# Altium footprint library SpaceBee.PcbLib: 36 footprints (part 2 of 3)
Each footprint in its own frame and in the unit in brackets; x right, y up, seen from the top. Pads: shape width x height; smd on the part's side, far side on the other; paste and mask are expansions set on the pad; w line width, h text height; cw(c..) or ccw(c..) is an arc to the next point about the centre after c.
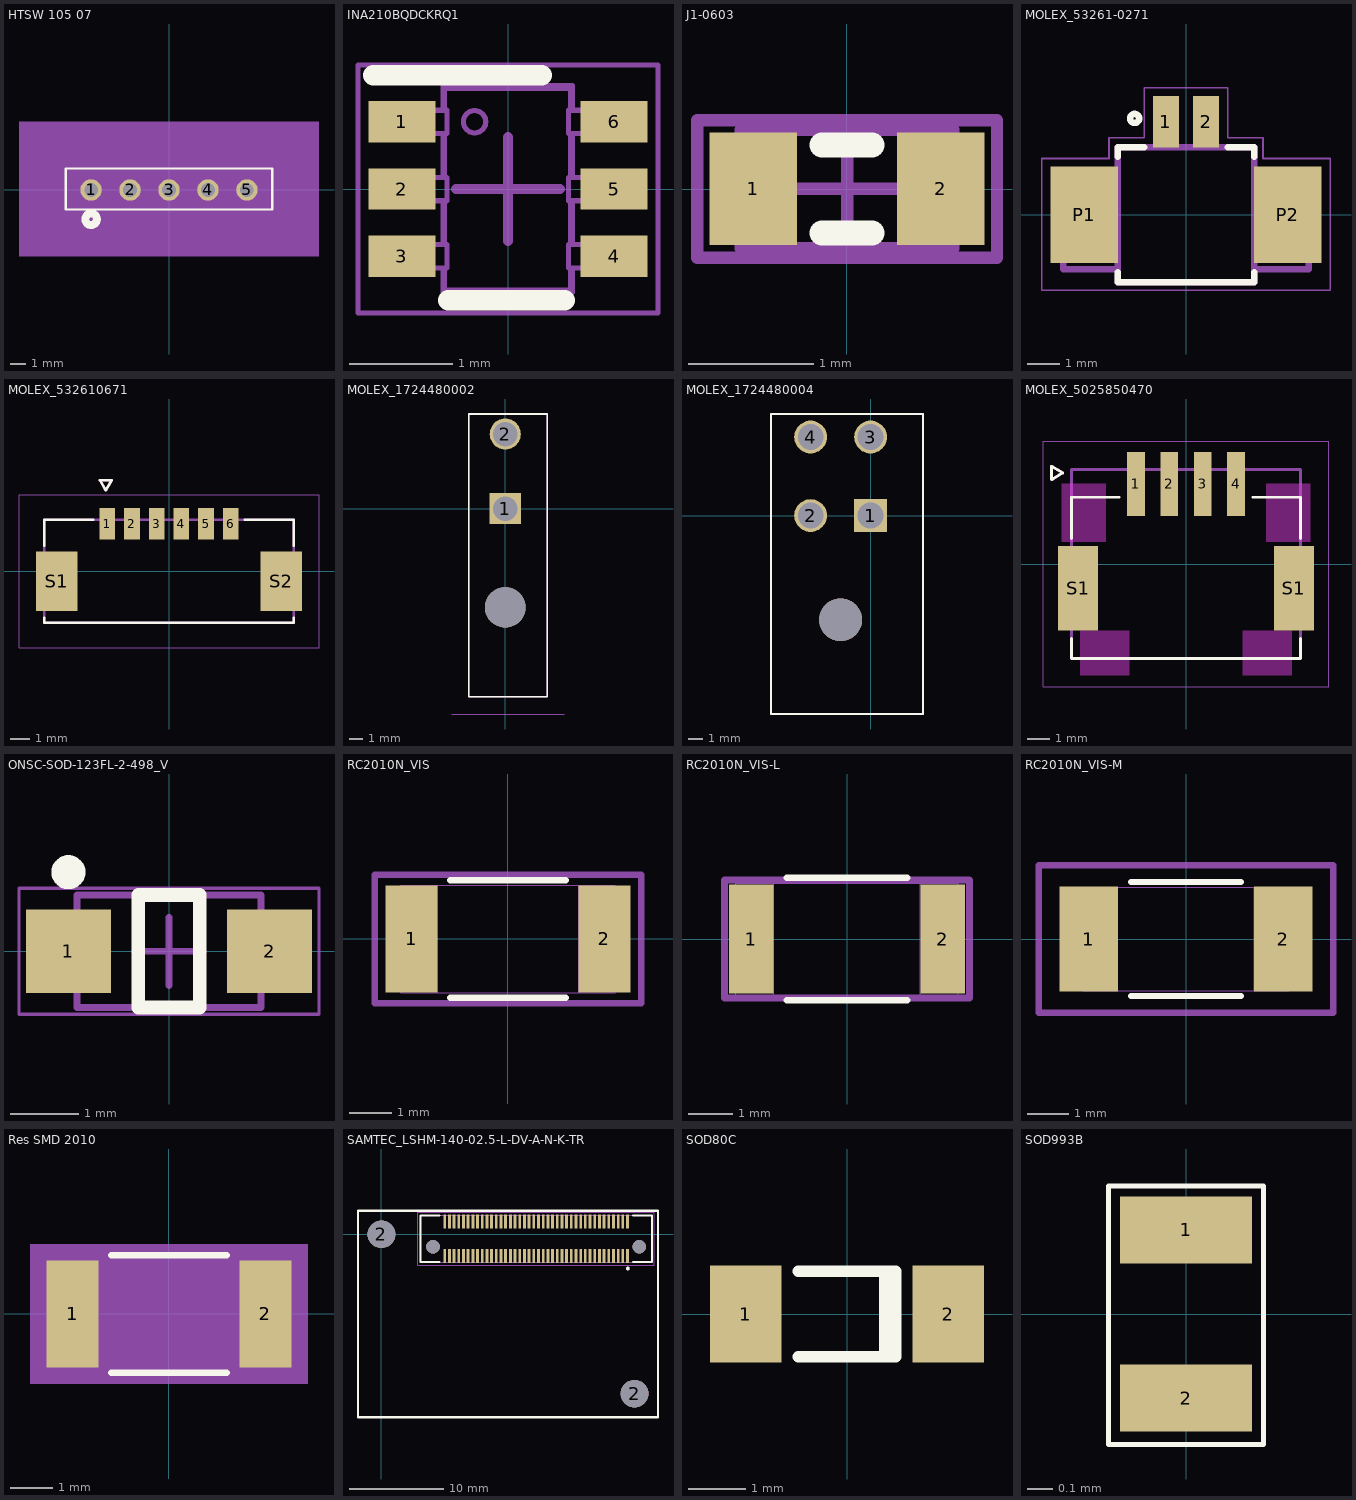
[diagram p1: the footprints below, top view; thin cyan lines are the x and y axes]

## HTSW 105 07 [mil]
pads (5):
  round 55 hole 35 mask+0: 1(-200,0) 2(-100,0) 3(0,0) 4(100,0) 5(200,0)
Top Overlay:
  circle w20: c-200,-75 r15
  lines w6: -265,-50 265,-50 265,55 -265,55 -265,-50
Bottom Overlay:
  circle w20: c-200,-75 r15
Mechanical 5:
  region: -385,175 385,175 385,-170 -385,-170
Mechanical 13:
  circle w0: c-200,0 r10
  lines w1: -260,-45 260,-45 260,50 -260,50 -260,-45
Mechanical 15:
  region: 270,60 250,60 250,102 -250,102 -250,60 -270,60 -270,-55 -250,-55 -250,-102 250,-102 250,-55 270,-55
  lines w6: -270,-55 -270,60 -250,60 -250,102 250,102 250,60 270,60 270,-55 250,-55 250,-102 -250,-102 -250,-55 -270,-55
3D body "CON5_1X5_TU_TSW.step": height 500, standoff 0, extent -250,-50 250,50

## INA210BQDCKRQ1 [mm]
pads (6):
  rect 0.65x0.4 smd paste+0 mask+0.051: 1(-1.025,0.65) 2(-1.025,0) 3(-1.025,-0.65) 4(1.025,-0.65) 5(1.025,0) 6(1.025,0.65)
Top Overlay:
  lines w0.2: -1.3,1.1 0.325,1.1 ; -0.575,-1.075 0.55,-1.075
Mechanical 13:
  lines w0.05: -0.613,-0.763 -0.613,-0.976 0.607,-0.976 0.607,-0.763 ; -0.613,-0.538 -0.613,-0.113 ; -0.613,0.112 -0.613,0.537 ; -0.613,0.762 -0.613,0.974 0.607,0.974 0.607,0.762 ; 0.607,-0.538 0.607,-0.113 ; 0.607,0.112 0.607,0.537 ; -0.628,-0.763 -0.628,-1.001 0.622,-1.001 0.622,-0.763 ; -0.628,-0.763 -0.853,-0.763 -0.865,-0.763 -0.959,-0.763 -1.143,-0.763 -1.143,-0.538 -0.959,-0.538 -0.865,-0.538 -0.853,-0.538 -0.628,-0.538 ; -0.628,-0.763 -0.591,-0.763 -0.591,-0.538 -0.628,-0.538 ; -0.628,-0.538 -0.628,-0.113 ; -0.628,-0.113 -0.853,-0.113 -0.865,-0.113 -0.959,-0.113 -1.143,-0.113 -1.143,0.112 -0.959,0.112 -0.865,0.112 -0.853,0.112 -0.628,0.112 ; -0.628,-0.113 -0.591,-0.113 -0.591,0.112 -0.628,0.112 ; -0.628,0.112 -0.628,0.537 ; -0.628,0.537 -0.853,0.537 -0.865,0.537 -0.959,0.537 -1.143,0.537 -1.143,0.762 -0.959,0.762 -0.865,0.762 -0.853,0.762 -0.628,0.762 ; -0.628,0.537 -0.591,0.537 -0.591,0.762 -0.628,0.762 ; -0.628,0.762 -0.628,0.999 0.622,0.999 0.622,0.762 ; 0.622,-0.763 0.847,-0.763 0.859,-0.763 0.953,-0.763 1.137,-0.763 1.137,-0.538 0.953,-0.538 0.859,-0.538 0.847,-0.538 0.622,-0.538 ; 0.622,-0.763 0.585,-0.763 0.585,-0.538 0.622,-0.538 ; 0.622,-0.538 0.622,-0.113 ; 0.622,-0.113 0.585,-0.113 0.585,0.112 0.622,0.112 ; 0.622,-0.113 0.847,-0.113 0.859,-0.113 0.953,-0.113 1.137,-0.113 1.137,0.112 0.953,0.112 0.859,0.112 0.847,0.112 0.622,0.112 ; 0.622,0.112 0.622,0.537 ; 0.622,0.537 0.847,0.537 0.859,0.537 0.953,0.537 1.137,0.537 1.137,0.762 0.953,0.762 0.859,0.762 0.847,0.762 0.622,0.762 ; 0.622,0.537 0.585,0.537 0.585,0.762 0.622,0.762 ; -0.432,0.65 cw(c-0.323,0.65) -0.215,0.65 cw(c-0.323,0.65) -0.432,0.65
Mechanical 15:
  lines w0.05: -1.45,-1.2 1.45,-1.2 1.45,1.2 -1.45,1.2 -1.45,-1.2
  lines w0.1: -0.5,0 0.5,0 ; 0,-0.5 0,0.5
3D body: height 1.1, standoff 0, extent -0.635,-1.016 0.635,1.016

## J1-0603 [mm]
pads (2):
  rect 0.7x0.9 smd: 1(-0.75,0) 2(0.75,0)
Top Overlay:
  lines w0.2: -0.2,-0.35 0.2,-0.35 ; -0.2,0.35 0.2,0.35
Mechanical 13:
  lines w0.1: -0.85,-0.475 0.85,-0.475 0.85,0.475 -0.85,0.475 -0.85,-0.475
Mechanical 15:
  lines w0.1: -0.475,0 0.475,0 ; 0,-0.475 0,0.475 ; -1.2,-0.55 1.2,-0.55 1.2,0.55 -1.2,0.55 -1.2,-0.55
3D body: height 0.9, standoff 0, extent -0.85,-0.475 0.85,0.475

## MOLEX_53261-0271 [mm]
pads (4):
  rect 0.8x1.6 smd: 1(-0.625,2.9) 2(0.625,2.9)
  rect 2.1x3 smd: P1(-3.175,0) P2(3.175,0)
Top Overlay:
  circle w0.2: c-1.6,3 r0.141
  lines w0.2: -2.125,-1.8 -2.125,-2.1 2.125,-2.1 2.125,-1.8 ; -2.125,1.8 -2.125,2.1 -1.3,2.1 ; 1.3,2.1 2.125,2.1 2.125,1.8
Mechanical 13:
  lines w0.2: -2.125,-1.7 -2.125,-2.1 2.125,-2.1 2.125,-1.7 ; -2.125,-1.7 -2.125,1.1 ; -2.125,-1.7 -3.825,-1.7 -3.825,1.1 -2.125,1.1 ; -2.125,1.1 -2.125,2.1 2.125,2.1 2.125,1.1 ; 2.125,-1.7 2.125,1.1 ; 2.125,-1.7 3.825,-1.7 3.825,1.1 2.125,1.1
Mechanical 15:
  lines w0.05: -4.5,-2.35 4.5,-2.35 4.5,1.75 2.4,1.75 2.4,2.4 1.3,2.4 1.3,3.95 -1.3,3.95 -1.3,2.4 -2.4,2.4 -2.4,1.75 -4.5,1.75 -4.5,-2.35
3D body "532610271.stp": height 3.23, standoff -0.17, extent -3.825,-2.118 3.825,3.082

## MOLEX_532610671 [mm]
pads (8):
  rect 0.8x1.6 smd mask+0: 1(-3.125,2.4) 2(-1.875,2.4) 3(-0.625,2.4) 4(0.625,2.4) 5(1.875,2.4) 6(3.125,2.4)
  rect 2.1x3 smd mask+0: S1(-5.675,-0.5) S2(5.675,-0.5)
Top Overlay:
  lines w0.127: -6.325,-2.35 -6.325,-2.6 6.325,-2.6 6.325,-2.35 ; -6.325,1.3 -6.325,2.6 -3.845,2.6 ; 3.845,2.6 6.325,2.6 6.325,1.3 ; -3.5,4.605 -2.9,4.605 -3.2,4.105 -3.5,4.605
Top Solder:
  region: -2.649,1.524 -3.601,1.524 -3.601,3.276 -2.649,3.276
  region: 6.801,-2.076 4.549,-2.076 4.549,1.076 6.801,1.076
  region: -4.549,-2.076 -6.801,-2.076 -6.801,1.076 -4.549,1.076
  region: -1.399,1.524 -2.351,1.524 -2.351,3.276 -1.399,3.276
  region: -0.149,1.524 -1.101,1.524 -1.101,3.276 -0.149,3.276
  region: 1.101,1.524 0.149,1.524 0.149,3.276 1.101,3.276
  region: 2.351,1.524 1.399,1.524 1.399,3.276 2.351,3.276
  region: 3.601,1.524 2.649,1.524 2.649,3.276 3.601,3.276
Mechanical 13:
  lines w0.127: -6.325,-2.6 6.325,-2.6 6.325,2.6 -6.325,2.6 -6.325,-2.6 ; -3.5,4.605 -2.9,4.605 -3.2,4.105 -3.5,4.605
Mechanical 15:
  lines w0.05: -7.595,-3.87 7.595,-3.87 7.595,3.87 -7.595,3.87 -7.595,-3.87
3D body "step_temp.STEP": height 3.38, standoff -0.02, extent -6.325,-2.626 6.325,2.574

## MOLEX_1724480002 [mm]
pads (3):
  rect 2.3x2.3 hole 1.8 mask+0.076: 1(0,0)
  round 2.3 hole 1.8 mask+0.076: 2(0,5.5)
  round 3 hole 3 unplated mask+0.076: ""(0,-7.3)
Top Overlay:
  lines w0.127: -2.7,-13.9 -2.7,6.985 3.1,6.985 3.1,-13.9 -2.7,-13.9
Mechanical 13:
  lines w0.127: -2.7,-13.9 -2.7,6.985 3.1,6.985 3.1,-13.9 -2.7,-13.9
Mechanical 15:
  lines w0.05: -3.97,-15.17 4.37,-15.17
3D body "step_temp.STEP": height 11.4, standoff -3.6, extent -2.752,-13.905 3.048,6.031

## MOLEX_1724480004 [mm]
pads (5):
  rect 2.3x2.3 hole 1.8 mask+0.076: 1(0,0)
  round 2.3 hole 1.8 mask+0.076: 2(-4.2,0) 3(0,5.5) 4(-4.2,5.5)
  round 3 hole 3 unplated: ""(-2.1,-7.3)
Top Overlay:
  lines w0.127: -6.985,-13.9 3.683,-13.9 3.683,7.112 -6.985,7.112 -6.985,-13.9
Bottom Solder:
  circle w1.226: c-4.2,5.5 r0.613
  circle w1.226: c-4.2,0 r0.613
  circle w1.226: c0,5.5 r0.613
  region: 1.226,-1.226 -1.226,-1.226 -1.226,1.226 1.226,1.226
Mechanical 13:
  lines w0.127: -6.985,-13.9 3.683,-13.9 3.683,7.112 -6.985,7.112 -6.985,-13.9
3D body "6006.stp": height 11.58, standoff -3.49, extent -7.62,-13.9 3.686,6.035

## MOLEX_5025850470 [mm]
pads (6):
  rect 0.8x2.9 smd mask+0.076: 1(-2.25,3.6) 2(-0.75,3.6) 3(0.75,3.6) 4(2.25,3.6)
  rect 1.8x3.8 smd mask+0.076: S1(-4.85,-1.1) S1(4.85,-1.1)
Top Overlay:
  lines w0.127: -5.15,-3.35 -5.15,-4.25 5.15,-4.25 5.15,-3.35 ; -5.15,1.15 -5.15,3 -3,3 ; 3,3 5.15,3 5.15,1.15 ; -6.05,3.8 -5.55,4.1 -6.05,4.4 -6.05,3.8
Keep-Out Layer:
  region: 4.75,-5 2.55,-5 2.55,-3 4.75,-3
  region: 5.6,1 3.6,1 3.6,3.6 5.6,3.6
  region: -2.55,-5 -4.75,-5 -4.75,-3 -2.55,-3
  region: -3.6,1 -5.6,1 -5.6,3.6 -3.6,3.6
Mechanical 13:
  lines w0.127: -6.05,3.8 -5.55,4.1 -6.05,4.4 -6.05,3.8 ; -5.15,-4.25 -5.15,4.25 5.15,4.25 5.15,-4.25 -5.15,-4.25
Mechanical 15:
  lines w0.05: -6.42,-5.52 6.42,-5.52 6.42,5.52 -6.42,5.52 -6.42,-5.52
3D body "5025850470.stp": height 6.38, standoff -0.02, extent -5.15,-3.942 5.15,4.558

## ONSC-SOD-123FL-2-498_V [mm]
pads (2):
  rect 1.25x1.22 smd: 1(-1.475,0) 2(1.475,0)
Top Overlay:
  circle w0.25: c-1.475,1.16 r0.125
  lines w0.2: -0.45,-0.825 0.45,-0.825 0.45,0.825 -0.45,0.825 -0.45,-0.825
Mechanical 13:
  lines w0.1: -1.35,-0.825 1.35,-0.825 1.35,0.825 -1.35,0.825 -1.35,-0.825
Mechanical 15:
  lines w0.05: -2.2,-0.925 -2.2,0.925 2.2,0.925 2.2,-0.925 -2.2,-0.925
  lines w0.1: -0.5,0 0.5,0 ; 0,-0.5 0,0.5
3D body: height 0.98, standoff 0, extent -1.35,-0.825 1.35,0.825

## RC2010N_VIS [mm]
pads (2):
  rect 1.206x2.5 smd paste+0 mask+0: 1(-2.253,0) 2(2.253,0)
Top Overlay:
  lines w0.152: -1.342,-1.377 1.342,-1.377 ; -1.342,1.377 1.342,1.377
Mechanical 13:
  lines w0.025: -2.5,-1.25 -2.5,1.25 ; -2.5,-1.25 2.5,-1.25 ; -2.5,-1.25 -1.65,-1.25 -1.65,1.25 -2.5,1.25 ; -2.5,-1.25 -2.5,1.25 ; -2.5,1.25 2.5,1.25 ; 2.5,-1.25 2.5,1.25 ; 2.5,-1.25 2.5,1.25 ; 2.5,-1.25 1.65,-1.25 1.65,1.25 2.5,1.25
Mechanical 15:
  lines w0.152: -3.11,-1.504 3.11,-1.504 3.11,1.504 -3.11,1.504 -3.11,-1.504
3D body "RC2010N_VIS.step": height 0.71, standoff 0, extent -2.5,-1.25 2.5,1.25

## RC2010N_VIS-L [mm]
pads (2):
  rect 1.002x2.449 smd paste+0 mask+0: 1(-2.151,0) 2(2.151,0)
Top Overlay:
  lines w0.152: -1.354,-1.377 1.354,-1.377 ; -1.354,1.377 1.354,1.377
Mechanical 13:
  lines w0.025: -2.5,-1.25 -2.5,1.25 ; -2.5,-1.25 2.5,-1.25 ; -2.5,-1.25 -1.65,-1.25 -1.65,1.25 -2.5,1.25 ; -2.5,-1.25 -2.5,1.25 ; -2.5,1.25 2.5,1.25 ; 2.5,-1.25 2.5,1.25 ; 2.5,-1.25 2.5,1.25 ; 2.5,-1.25 1.65,-1.25 1.65,1.25 2.5,1.25
Mechanical 15:
  lines w0.152: -2.754,-1.326 2.754,-1.326 2.754,1.326 -2.754,1.326 -2.754,-1.326
3D body "RC2010N_VIS.step": height 0.71, standoff 0, extent -2.5,-1.25 2.5,1.25

## RC2010N_VIS-M [mm]
pads (2):
  rect 1.409x2.551 smd paste+0 mask+0: 1(-2.354,0) 2(2.354,0)
Top Overlay:
  lines w0.152: -1.333,-1.377 1.333,-1.377 ; -1.333,1.377 1.333,1.377
Mechanical 13:
  lines w0.025: -2.5,-1.25 -2.5,1.25 ; -2.5,-1.25 2.5,-1.25 ; -2.5,-1.25 -1.65,-1.25 -1.65,1.25 -2.5,1.25 ; -2.5,-1.25 -2.5,1.25 ; -2.5,1.25 2.5,1.25 ; 2.5,-1.25 2.5,1.25 ; 2.5,-1.25 2.5,1.25 ; 2.5,-1.25 1.65,-1.25 1.65,1.25 2.5,1.25
Mechanical 15:
  lines w0.152: -3.567,-1.783 3.567,-1.783 3.567,1.783 -3.567,1.783 -3.567,-1.783
3D body "RC2010N_VIS.step": height 0.71, standoff 0, extent -2.5,-1.25 2.5,1.25

## Res SMD 2010 [mm]
pads (2):
  rect 1.206x2.5 smd paste+0 mask+0: 1(-2.253,0) 2(2.253,0)
Top Overlay:
  lines w0.152: -1.342,-1.377 1.342,-1.377 ; -1.342,1.377 1.342,1.377
Mechanical 5:
  region: 3.237,-1.631 -3.237,-1.631 -3.237,1.631 3.237,1.631
Mechanical 13:
  lines w0.025: -2.5,-1.25 -2.5,1.25 ; -2.5,-1.25 -1.65,-1.25 -1.65,1.25 -2.5,1.25 ; -2.5,-1.25 2.5,-1.25 ; -2.5,-1.25 -2.5,1.25 ; -2.5,1.25 2.5,1.25 ; 2.5,-1.25 1.65,-1.25 1.65,1.25 2.5,1.25 ; 2.5,-1.25 2.5,1.25 ; 2.5,-1.25 2.5,1.25
Mechanical 15:
  region: 3.11,-1.504 -3.11,-1.504 -3.11,1.504 3.11,1.504
  lines w0.152: -3.11,-1.504 -3.11,1.504 3.11,1.504 3.11,-1.504 -3.11,-1.504
3D body "RC2010N_VIS.step": height 0.71, standoff 0, extent -2.5,-1.25 2.5,1.25

## SAMTEC_LSHM-140-02.5-L-DV-A-N-K-TR [mm]
pads (84):
  rect 0.3x1.5 smd: 01(26.25,-2.323) 02(26.25,1.377) 03(25.75,-2.323) 04(25.75,1.377) 05(25.25,-2.323) 06(25.25,1.377) 07(24.75,-2.323) 08(24.75,1.377) 09(24.25,-2.323) 10(24.25,1.377) 11(23.75,-2.323) 12(23.75,1.377) 13(23.25,-2.323) 14(23.25,1.377) 15(22.75,-2.323) 16(22.75,1.377) 17(22.25,-2.323) 18(22.25,1.377) 19(21.75,-2.323) 20(21.75,1.377) 21(21.25,-2.323) 22(21.25,1.377) 23(20.75,-2.323) 24(20.75,1.377) 25(20.25,-2.323) 26(20.25,1.377) 27(19.75,-2.323) 28(19.75,1.377) 29(19.25,-2.323) 30(19.25,1.377) 31(18.75,-2.323) 32(18.75,1.377) 33(18.25,-2.323) 34(18.25,1.377) 35(17.75,-2.323) 36(17.75,1.377) 37(17.25,-2.323) 38(17.25,1.377) 39(16.75,-2.323) 40(16.75,1.377) 41(16.25,-2.323) 42(16.25,1.377) 43(15.75,-2.323) 44(15.75,1.377) 45(15.25,-2.323) 46(15.25,1.377) 47(14.75,-2.323) 48(14.75,1.377) 49(14.25,-2.323) 50(14.25,1.377) 51(13.75,-2.323) 52(13.75,1.377) 53(13.25,-2.323) 54(13.25,1.377) 55(12.75,-2.323) 56(12.75,1.377) 57(12.25,-2.323) 58(12.25,1.377) 59(11.75,-2.323) 60(11.75,1.377) 61(11.25,-2.323) 62(11.25,1.377) 63(10.75,-2.323) 64(10.75,1.377) 65(10.25,-2.323) 66(10.25,1.377) 67(9.75,-2.323) 68(9.75,1.377) 69(9.25,-2.323) 70(9.25,1.377) 71(8.75,-2.323) 72(8.75,1.377) 73(8.25,-2.323) 74(8.25,1.377) 75(7.75,-2.323) 76(7.75,1.377) 77(7.25,-2.323) 78(7.25,1.377) 79(6.75,-2.323) 80(6.75,1.377)
  round 2.96 hole 2.95: 2(0,0) 2(27,-17)
  round 1.45 hole 1.45 unplated: ""(5.5,-1.323) ""(27.5,-1.323)
Top Overlay:
  circle w0.2: c26.279,-3.648 r0.1
  lines w0.2: 6.2,-2.963 4.15,-2.963 4.15,2.017 6.2,2.017 ; 26.8,-2.963 28.85,-2.963 28.85,2.017 26.8,2.017
  lines w0.254: -2.5,-19.5 -2.5,2.5 29.5,2.5 29.5,-19.5 -2.5,-19.5
Mechanical 13:
  circle w0.2: c26.279,-3.648 r0.1
  lines w0.1: 4.15,-2.963 28.85,-2.963 28.85,2.017 4.15,2.017 4.15,-2.963
Mechanical 15:
  lines w0.05: 3.9,-3.323 29.1,-3.323 29.1,2.377 3.9,2.377 3.9,-3.323
3D body "LSHM-140-02.5-L-DV-A-N-K-TR.stp": height 4.08, standoff -0.87, extent 4.1,-2.963 28.9,2.017
3D body "638328_EPOS4_Micro_24-5_CAN.stp": height 7.45, standoff 0.4, extent -2.5,-19.5 29.5,2.5

## SOD80C [mm] "Metal Electrode Face (MELF) Diode; Body 3.5 x 1.6 mm (LxDia)"
height 1.6
pads (2):
  rect 1.25x1.7 smd: 1(-1.775,0) 2(1.775,0)
Top Overlay:
  lines w0.2: -0.85,-0.75 0.85,-0.75 0.85,0.75 -0.85,0.75 ; 0.66,-0.75 0.66,0.75
3D body "User Library-Mini2-F4-B.STEP": height 0.8, standoff -0.03, extent -1.75,-0.8 1.75,0.8

## SOD993B [mm]
pads (2):
  rect 0.51x0.26 smd paste+0 mask+0.01: 1(0,0.325) 2(0,-0.325)
Top Overlay:
  lines w0.02: -0.3,-0.505 -0.3,0.495 0.3,0.495 0.3,-0.505 -0.3,-0.505
3D body "PTVS5V0Z1BSCYL.STEP": height 0.28, standoff -0.02, extent -0.3,-0.505 0.3,0.495